# Altium footprint library PcbLib1.PcbLib: 2 footprints
Each footprint in its own frame and in the unit in brackets; x right, y up, seen from the top. Pads: shape width x height; smd on the part's side, far side on the other; paste and mask are expansions set on the pad; w line width, h text height; cw(c..) or ccw(c..) is an arc to the next point about the centre after c.
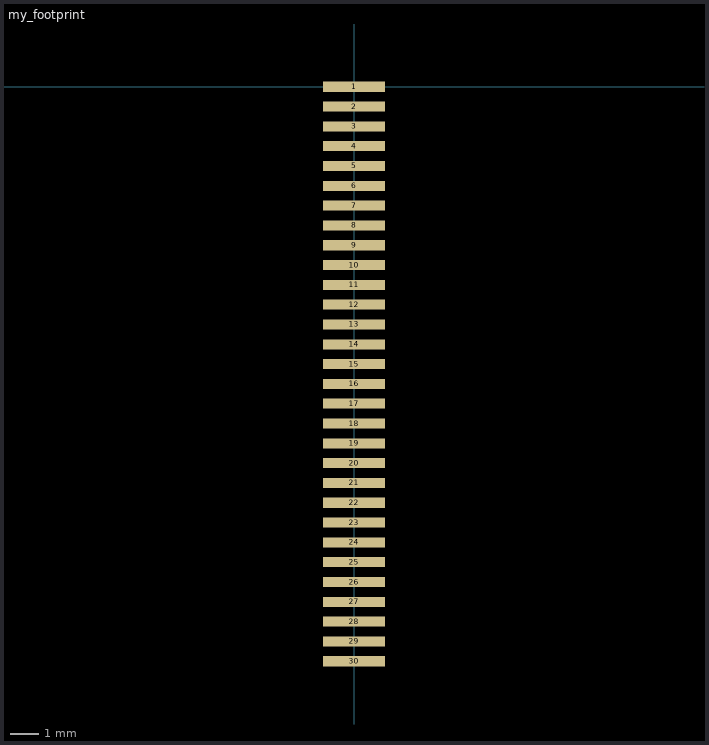
[diagram p0: the footprints below, top view; thin cyan lines are the x and y axes]

## my_footprint [mil]
pads (30):
  rect 86x14 smd: 1(0,0) 2(0,-27.56) 3(0,-55.12) 4(0,-82.68) 5(0,-110.24) 6(0,-137.8) 7(0,-165.36) 8(0,-192.92) 9(0,-220.48) 10(0,-248.04) 11(0,-275.6) 12(0,-303.16) 13(0,-330.72) 14(0,-358.28) 15(0,-385.84) 16(0,-413.4) 17(0,-440.96) 18(0,-468.52) 19(0,-496.08) 20(0,-523.64) 21(0,-551.2) 22(0,-578.76) 23(0,-606.32) 24(0,-633.88) 25(0,-661.44) 26(0,-689) 27(0,-716.56) 28(0,-744.12) 29(0,-771.68) 30(0,-799.24)

## PCBComponent_1 [mil]